# Altium schematic symbol library Specialized ICs.SchLib: 1 symbol
Pins are listed as number, name and electrical type; pins without a type are passive.

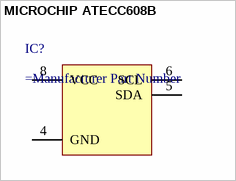
[diagram p0: symbol MICROCHIP ATECC608B]

## MICROCHIP ATECC608B
designator IC?
CryptoAuthentication™ Device
footprint MICROCHIP SOIC-8 150mil Wide (SOIC, 8-Leads, Body 4.90x3.90mm, Pitch 1.27mm, IPC Medium Density)
pins: 4 GND, 5 SDA, 6 SCL, 8 VCC